# EAGLE library part TXB0102DCUR (library IGVC-IC)
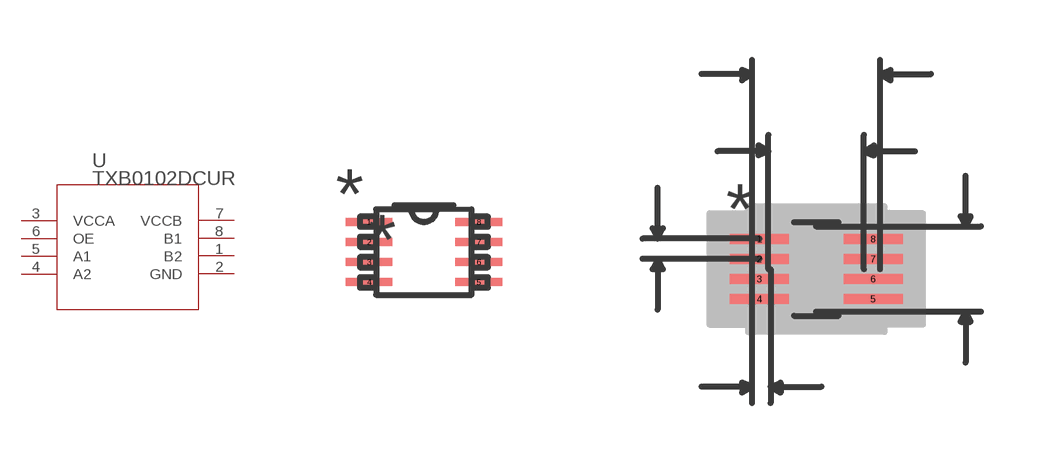
[diagram p0: symbol with the pads of DCU8; footprints DCU8, DCU8-M]

Designator prefix U

## TXB0102DCUR (MANUFACTURER_PART_NUMBER: TXB0102DCUR; VENDOR: Texas Instruments)  [DCU8]
1  B2
2  GND  pwr
3  VCCA  pwr
4  A2
5  A1
6  OE  out
7  VCCB  pwr
8  B1

## TXB0102DCURDCU8-M (MANUFACTURER_PART_NUMBER: TXB0102DCUR; VENDOR: Texas Instruments)  [DCU8-M]
Pads as for DCU8

## TXB0102DCURDCU8-L (MANUFACTURER_PART_NUMBER: TXB0102DCUR; VENDOR: Texas Instruments)  [DCU8-L]
Pads as for DCU8

## Footprint DCU8 (pad centres in mm)
smd 1.168 x 0.203: 1 -1.372,0.75; 2 -1.372,0.25; 3 -1.372,-0.25; 4 -1.372,-0.75; 5 1.372,-0.75; 6 1.372,-0.25; 7 1.372,0.25; 8 1.372,0.75

## Footprint DCU8-M (pad centres in mm)
smd 1.473 x 0.254: 1 -1.422,0.75; 2 -1.422,0.25; 3 -1.422,-0.25; 4 -1.422,-0.75; 5 1.422,-0.75; 6 1.422,-0.25; 7 1.422,0.25; 8 1.422,0.75

## Footprint DCU8-L (pad centres in mm)
smd 0.864 x 0.152: 1 -0.051,-0.52; 2 -0.051,-1.02; 3 -0.051,-1.52; 4 -0.051,-2.02; 5 2.591,-2.02; 6 2.591,-1.52; 7 2.591,-1.02; 8 2.591,-0.52